# Altium footprint library lib.PcbLib: 40 footprints (part 1 of 3)
Each footprint in its own frame and in the unit in brackets; x right, y up, seen from the top. Pads: shape width x height; smd on the part's side, far side on the other; paste and mask are expansions set on the pad; w line width, h text height; cw(c..) or ccw(c..) is an arc to the next point about the centre after c.
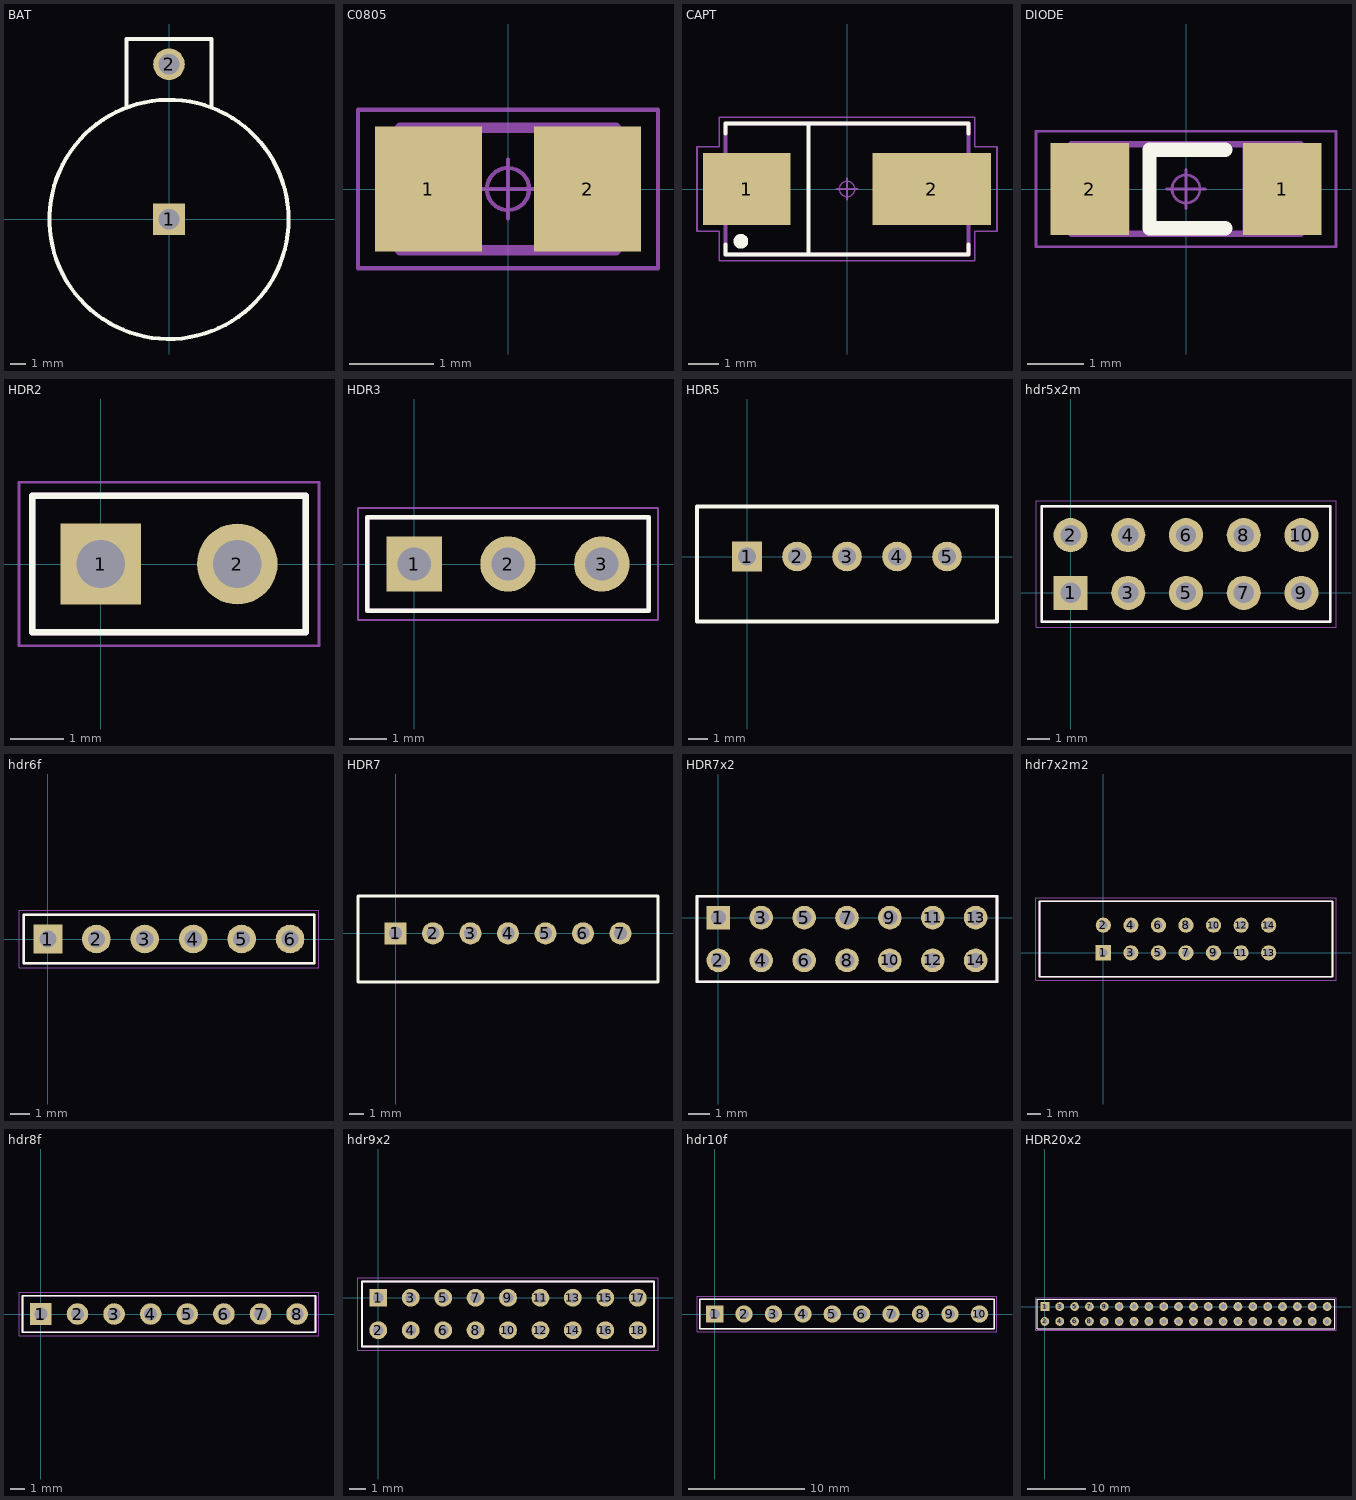
[diagram p0: the footprints below, top view; thin cyan lines are the x and y axes]

## BAT [mm] "DIPS, 9.80 mm lead span, 0.00 mm pitch; 2 pin, 15.10 mm L X 14.00 mm W X 7.90 mm H body"
height 7.9
pads (2):
  rect 2x2 hole 1.3: 1(0,0)
  round 2 hole 1.3: 2(0,9.8)
Top Overlay:
  circle w0.254: c0,0 r7.558
  lines w0.254: -2.7,7.15 -2.7,7.95 -2.7,11.4 2.7,11.4 2.7,7.1
Mechanical 12:
  lines w0.025: -0.6,-0.6 0.6,-0.6 0.6,0.6 -0.6,0.6 -0.6,-0.6 ; -0.6,9.2 0.6,9.2 0.6,10.4 -0.6,10.4 -0.6,9.2
3D body "bat-holder.stp": height 7.07, standoff -3.98, extent -7.53,-7.531 7.53,11.519

## C0805 [mm] "Capacitor, Chip; 2.35 mm L X 1.35 mm W X 1.00 mm H body"
height 1
pads (2):
  rect 1.27x1.48 smd: 1(-0.945,0) 2(0.945,0)
Mechanical 11:
  lines w0.12: -1.28,-0.73 1.28,-0.73 1.28,0.73 -1.28,0.73 -1.28,-0.73
Mechanical 12:
  lines w0.025: -1.175,-0.675 1.175,-0.675 ; -1.175,-0.675 -1.175,0.675 ; -1.175,-0.675 -1.175,0.675 ; -1.175,-0.675 -0.425,-0.675 -0.425,0.675 -1.175,0.675 ; -1.175,0.675 1.175,0.675 ; 1.175,-0.675 1.175,0.675 ; 1.175,-0.675 0.425,-0.675 0.425,0.675 1.175,0.675 ; 1.175,-0.675 1.175,0.675
Mechanical 15:
  circle w0.05: c0,0 r0.25
  lines w0.05: -0.35,0 0.35,0 ; 0,-0.35 0,0.35 ; -1.78,-0.94 1.78,-0.94 1.78,0.94 -1.78,0.94 -1.78,-0.94
3D body "User Library-SMD CAPACITOR.step": height 0.58, standoff -0.02, extent -1,-0.625 1,0.625

## CAPT [mm] "Capacitor, Polarized, Molded Body; 7.85 mm L X 4.20 mm W X 2.65 mm H body"
height 2.65
pads (2):
  rect 2.84x2.35 smd: 1(-3.255,0)
  rect 3.84x2.35 smd: 2(2.755,0)
Top Overlay:
  circle w0.254: c-3.45,-1.7 r0.112
  lines w0.12: -3.95,-1.8 -3.95,-2.13 3.95,-2.13 3.95,-1.8 ; -3.95,1.8 -3.95,2.13 3.95,2.13 3.95,1.8 ; -1.25,-2.13 -1.25,2.1
Mechanical 11:
  lines w0.12: -3.95,-2.13 3.95,-2.13 3.95,2.13 -3.95,2.13 -3.95,-2.13
Mechanical 12:
  lines w0.025: -4.125,-1.125 -4.125,1.125 -2.025,1.125 -2.025,-1.125 -4.125,-1.125 ; -3.925,-2.1 3.925,-2.1 3.925,2.1 -3.925,2.1 -3.925,-2.1 ; 1.025,-1.125 4.125,-1.125 4.125,1.125 1.025,1.125 1.025,-1.125
Mechanical 15:
  circle w0.05: c0,0 r0.25
  lines w0.05: -0.35,0 0.35,0 ; 0,-0.35 0,0.35 ; -4.875,-1.375 -4.15,-1.375 -4.15,-2.33 4.15,-2.33 4.15,-1.375 4.875,-1.375 4.875,1.375 4.15,1.375 4.15,2.33 -4.15,2.33 -4.15,1.375 -4.875,1.375 -4.875,-1.375
3D body "CAPT.stp": height 2, standoff 0, extent -3.81,-2.3 3.79,2.3

## DIODE [mm] "Diode, Chip; 4.05 mm L X 1.55 mm W X 1.50 mm H body"
height 1.5
pads (2):
  rect 1.4x1.65 smd: 1(1.72,0) 2(-1.72,0)
Top Overlay:
  lines w0.254: 0.7,-0.7 -0.65,-0.7 -0.65,0.7 0.7,0.7
Mechanical 11:
  lines w0.12: -2.05,-0.8 2.05,-0.8 2.05,0.8 -2.05,0.8 -2.05,-0.8
Mechanical 12:
  lines w0.025: -2.025,-0.775 2.025,-0.775 ; -2.025,-0.775 -2.025,0.775 ; -2.025,-0.775 -2.025,0.775 ; -2.025,-0.775 -1.02,-0.775 -1.02,0.775 -2.025,0.775 ; -2.025,0.775 2.025,0.775 ; 2.025,-0.775 2.025,0.775 ; 2.025,-0.775 1.02,-0.775 1.02,0.775 2.025,0.775 ; 2.025,-0.775 2.025,0.775
Mechanical 15:
  circle w0.05: c0,0 r0.25
  lines w0.05: -0.35,0 0.35,0 ; 0,-0.35 0,0.35 ; -2.68,-1.03 2.68,-1.03 2.68,1.03 -2.68,1.03 -2.68,-1.03
3D body "User Library-MiniMelf-2.step": height 1.6, standoff 0, extent -1.88,-0.8 1.82,0.8

## HDR2 [mm] "Header, Vertical, 2.54 mm pitch; 0.65 mm lead width, 2 pins, 1 row, 2 pins per row, 5.08 mm L X 2.54 mm W X 11.00 mm H body"
height 11
pads (2):
  rect 1.5x1.5 hole 0.9 paste-1.5: 1(0,0)
  round 1.5 hole 0.9 paste-1.5: 2(2.54,0)
Top Overlay:
  lines w0.12: -1.27,-1.27 3.81,-1.27 3.81,1.27 -1.27,1.27 -1.27,-1.27
Mechanical 11:
  lines w0.12: -1.27,-1.27 3.81,-1.27 3.81,1.27 -1.27,1.27 -1.27,-1.27
Mechanical 12:
  lines w0.025: -1.27,-1.27 3.81,-1.27 3.81,1.27 -1.27,1.27 -1.27,-1.27 ; -0.325,-0.325 0.325,-0.325 0.325,0.325 -0.325,0.325 -0.325,-0.325 ; 2.215,-0.325 2.865,-0.325 2.865,0.325 2.215,0.325 2.215,-0.325
Mechanical 15:
  circle w0.05: c0,0 r0.25
  lines w0.05: -0.35,0 0.35,0 ; 0,-0.35 0,0.35 ; -1.52,-1.52 4.06,-1.52 4.06,1.52 -1.52,1.52 -1.52,-1.52
3D body "pin_2.stp": height 8.27, standoff -3.29, extent -1.219,-1.27 3.759,1.27

## HDR3 [mm] "Header, Vertical, 2.54 mm pitch; 0.65 mm lead width, 3 pins, 1 row, 3 pins per row, 7.62 mm L X 2.54 mm W X 11.00 mm H body"
height 11
pads (3):
  rect 1.5x1.5 hole 0.9 paste-1.5: 1(0,0)
  round 1.5 hole 0.9 paste-1.5: 2(2.54,0) 3(5.08,0)
Top Overlay:
  lines w0.12: -1.27,-1.27 6.35,-1.27 6.35,1.27 -1.27,1.27 -1.27,-1.27
Mechanical 11:
  lines w0.12: -1.27,-1.27 6.35,-1.27 6.35,1.27 -1.27,1.27 -1.27,-1.27
Mechanical 12:
  lines w0.025: -1.27,-1.27 6.35,-1.27 6.35,1.27 -1.27,1.27 -1.27,-1.27 ; -0.325,-0.325 0.325,-0.325 0.325,0.325 -0.325,0.325 -0.325,-0.325 ; 2.215,-0.325 2.865,-0.325 2.865,0.325 2.215,0.325 2.215,-0.325 ; 4.755,-0.325 5.405,-0.325 5.405,0.325 4.755,0.325 4.755,-0.325
Mechanical 15:
  circle w0.05: c0,0 r0.25
  lines w0.05: -0.35,0 0.35,0 ; 0,-0.35 0,0.35 ; -1.52,-1.52 6.6,-1.52 6.6,1.52 -1.52,1.52 -1.52,-1.52
3D body "HDR3.STEP": height 11, standoff -2.3, extent -1.27,-1.27 6.35,1.27

## HDR5 [mm]
pads (5):
  rect 1.5x1.5 hole 0.9: 1(0,0)
  round 1.5 hole 0.9: 2(2.54,0) 3(5.08,0) 4(7.62,0) 5(10.16,0)
Top Overlay:
  lines w0.2: -2.54,-3.302 12.7,-3.302 12.7,2.54 -2.54,2.54 -2.54,-3.302
3D body "hdr5_silver.stp": height 7.01, standoff -2.13, extent -2.379,-3.434 12.521,2.366

## hdr5x2m [mm] "Header, Vertical, 2.54 mm pitch; 0.65 mm lead width, 10 pins, 2 rows, 5 pins per row, 12.70 mm L X 5.08 mm W X 8.60 mm H body"
height 8.6
pads (10):
  rect 1.5x1.5 hole 0.9 paste-1.5: 1(0,0)
  round 1.5 hole 0.9 paste-1.5: 2(0,2.54) 3(2.54,0) 4(2.54,2.54) 5(5.08,0) 6(5.08,2.54) 7(7.62,0) 8(7.62,2.54) 9(10.16,0) 10(10.16,2.54)
Top Overlay:
  lines w0.12: -1.27,-1.27 11.43,-1.27 11.43,3.81 -1.27,3.81 -1.27,-1.27
Mechanical 11:
  lines w0.12: -1.27,-1.27 11.43,-1.27 11.43,3.81 -1.27,3.81 -1.27,-1.27
Mechanical 12:
  lines w0.025: -1.27,-1.27 11.43,-1.27 11.43,3.81 -1.27,3.81 -1.27,-1.27 ; -0.325,-0.325 0.325,-0.325 0.325,0.325 -0.325,0.325 -0.325,-0.325 ; -0.325,2.215 0.325,2.215 0.325,2.865 -0.325,2.865 -0.325,2.215 ; 2.215,-0.325 2.865,-0.325 2.865,0.325 2.215,0.325 2.215,-0.325 ; 2.215,2.215 2.865,2.215 2.865,2.865 2.215,2.865 2.215,2.215 ; 4.755,-0.325 5.405,-0.325 5.405,0.325 4.755,0.325 4.755,-0.325 ; 4.755,2.215 5.405,2.215 5.405,2.865 4.755,2.865 4.755,2.215 ; 7.295,-0.325 7.945,-0.325 7.945,0.325 7.295,0.325 7.295,-0.325 ; 7.295,2.215 7.945,2.215 7.945,2.865 7.295,2.865 7.295,2.215 ; 9.835,-0.325 10.485,-0.325 10.485,0.325 9.835,0.325 9.835,-0.325 ; 9.835,2.215 10.485,2.215 10.485,2.865 9.835,2.865 9.835,2.215
Mechanical 15:
  circle w0.05: c0,0 r0.25
  lines w0.05: -0.35,0 0.35,0 ; 0,-0.35 0,0.35 ; -1.52,-1.52 11.68,-1.52 11.68,4.06 -1.52,4.06 -1.52,-1.52
Mechanical 16:
  text ".Designator" at 0,0 h1.2
3D body "hdr5x2m.STEP": height 8.6, standoff -2.3, extent -1.27,-1.27 11.43,3.81

## hdr6f [mm] "Header, Vertical Receptacle, 2.54 mm pitch; 0.65 mm lead width, 6 pins, 1 row, 6 pins per row, 15.24 mm L X 2.54 mm W X 13.30 mm H body"
height 13.3
pads (6):
  rect 1.5x1.5 hole 0.9 paste-1.5: 1(0,0)
  round 1.5 hole 0.9 paste-1.5: 2(2.54,0) 3(5.08,0) 4(7.62,0) 5(10.16,0) 6(12.7,0)
Top Overlay:
  lines w0.12: -1.27,-1.27 -1.27,1.27 13.97,1.27 13.97,-1.27 -1.27,-1.27
Mechanical 11:
  lines w0.12: -1.27,-1.27 -1.27,1.27 13.97,1.27 13.97,-1.27 -1.27,-1.27
Mechanical 12:
  lines w0.025: -1.27,-1.27 -1.27,1.27 13.97,1.27 13.97,-1.27 -1.27,-1.27 ; -0.325,-0.325 -0.325,0.325 0.325,0.325 0.325,-0.325 -0.325,-0.325 ; 2.215,-0.325 2.215,0.325 2.865,0.325 2.865,-0.325 2.215,-0.325 ; 4.755,-0.325 4.755,0.325 5.405,0.325 5.405,-0.325 4.755,-0.325 ; 7.295,-0.325 7.295,0.325 7.945,0.325 7.945,-0.325 7.295,-0.325 ; 9.835,-0.325 9.835,0.325 10.485,0.325 10.485,-0.325 9.835,-0.325 ; 12.375,-0.325 12.375,0.325 13.025,0.325 13.025,-0.325 12.375,-0.325
Mechanical 15:
  circle w0.05: c0,0 r0.25
  lines w0.05: -0.35,0 0.35,0 ; 0,-0.35 0,0.35 ; -1.52,-1.52 -1.52,1.52 14.22,1.52 14.22,-1.52 -1.52,-1.52
Mechanical 16:
  text ".Designator" at 0,0 h1.2
3D body "hdr6f.STEP": height 13.3, standoff -2, extent -1.27,-1.27 13.97,1.27

## HDR7 [mm]
pads (7):
  rect 1.5x1.5 hole 0.9: 1(0,0)
  round 1.5 hole 0.9: 2(2.54,0) 3(5.08,0) 4(7.62,0) 5(10.16,0) 6(12.7,0) 7(15.24,0)
Top Overlay:
  lines w0.2: -2.54,-3.302 17.78,-3.302 17.78,2.54 -2.54,2.54 -2.54,-3.302
3D body "hdr7_silver.stp": height 7.02, standoff -2.16, extent -2.372,-3.373 17.608,2.427

## HDR7x2 [mm] "Header, Vertical Receptacle, 2.00 mm pitch; 0.50 mm lead width, 14 pins, 2 rows, 7 pins per row, 14.00 mm L X 4.00 mm W X 4.31 mm H body"
height 4.31
pads (14):
  rect 1.1x1.1 hole 0.7: 1(0,0)
  round 1.1 hole 0.7: 2(0,-2) 3(2,0) 4(2,-2) 5(4,0) 6(4,-2) 7(6,0) 8(6,-2) 9(8,0) 10(8,-2) 11(10,0) 12(10,-2) 13(12,0) 14(12,-2)
Top Overlay:
  lines w0.12: -1,-3 -1,1 13,1 13,-3 -1,-3
Mechanical 11:
  lines w0.12: -1,-3 -1,1 13,1 13,-3 -1,-3
Mechanical 12:
  lines w0.025: -1,-3 -1,1 13,1 13,-3 -1,-3 ; -0.25,-2.25 -0.25,-1.75 0.25,-1.75 0.25,-2.25 -0.25,-2.25 ; -0.25,-0.25 -0.25,0.25 0.25,0.25 0.25,-0.25 -0.25,-0.25 ; 1.75,-2.25 1.75,-1.75 2.25,-1.75 2.25,-2.25 1.75,-2.25 ; 1.75,-0.25 1.75,0.25 2.25,0.25 2.25,-0.25 1.75,-0.25 ; 3.75,-2.25 3.75,-1.75 4.25,-1.75 4.25,-2.25 3.75,-2.25 ; 3.75,-0.25 3.75,0.25 4.25,0.25 4.25,-0.25 3.75,-0.25 ; 5.75,-2.25 5.75,-1.75 6.25,-1.75 6.25,-2.25 5.75,-2.25 ; 5.75,-0.25 5.75,0.25 6.25,0.25 6.25,-0.25 5.75,-0.25 ; 7.75,-2.25 7.75,-1.75 8.25,-1.75 8.25,-2.25 7.75,-2.25 ; 7.75,-0.25 7.75,0.25 8.25,0.25 8.25,-0.25 7.75,-0.25 ; 9.75,-2.25 9.75,-1.75 10.25,-1.75 10.25,-2.25 9.75,-2.25 ; 9.75,-0.25 9.75,0.25 10.25,0.25 10.25,-0.25 9.75,-0.25 ; 11.75,-2.25 11.75,-1.75 12.25,-1.75 12.25,-2.25 11.75,-2.25 ; 11.75,-0.25 11.75,0.25 12.25,0.25 12.25,-0.25 11.75,-0.25
Mechanical 15:
  circle w0.05: c0,0 r0.25
  lines w0.05: -0.35,0 0.35,0 ; 0,-0.35 0,0.35
3D body "HDR7x2.STEP": height 4.31, standoff -2, extent -1,-3 13,1

## hdr7x2m2 [mm] "Header, Vertical Shrouded, 2.00 mm pitch; 0.47 mm lead width, 14 pins, 2 rows, 7 pins per row, 21.25 mm L X 5.50 mm W X 5.60 mm H body"
height 5.6
pads (14):
  rect 1.1x1.1 hole 0.6 paste-1.1: 1(0,0)
  round 1.1 hole 0.6 paste-1.1: 2(0,2) 3(2,0) 4(2,2) 5(4,0) 6(4,2) 7(6,0) 8(6,2) 9(8,0) 10(8,2) 11(10,0) 12(10,2) 13(12,0) 14(12,2)
Top Overlay:
  lines w0.12: -4.63,-1.75 -4.63,3.75 16.63,3.75 16.63,-1.75 -4.63,-1.75
Mechanical 11:
  circle w0.12: c0,0 r0.24
  circle w0.12: c0,2 r0.24
  circle w0.12: c2,0 r0.24
  circle w0.12: c2,2 r0.24
  circle w0.12: c4,0 r0.24
  circle w0.12: c4,2 r0.24
  circle w0.12: c6,0 r0.24
  circle w0.12: c6,2 r0.24
  circle w0.12: c8,0 r0.24
  circle w0.12: c8,2 r0.24
  circle w0.12: c10,0 r0.24
  circle w0.12: c10,2 r0.24
  circle w0.12: c12,0 r0.24
  circle w0.12: c12,2 r0.24
  lines w0.12: -4.63,-1.75 -4.63,3.75 16.63,3.75 16.63,-1.75 -4.63,-1.75
Mechanical 12:
  lines w0.025: -4.625,-1.75 -4.625,3.75 16.625,3.75 16.625,-1.75 -4.625,-1.75 ; -0.235,-0.235 -0.235,0.235 0.235,0.235 0.235,-0.235 -0.235,-0.235 ; -0.235,1.765 -0.235,2.235 0.235,2.235 0.235,1.765 -0.235,1.765 ; 1.765,-0.235 1.765,0.235 2.235,0.235 2.235,-0.235 1.765,-0.235 ; 1.765,1.765 1.765,2.235 2.235,2.235 2.235,1.765 1.765,1.765 ; 3.765,-0.235 3.765,0.235 4.235,0.235 4.235,-0.235 3.765,-0.235 ; 3.765,1.765 3.765,2.235 4.235,2.235 4.235,1.765 3.765,1.765 ; 5.765,-0.235 5.765,0.235 6.235,0.235 6.235,-0.235 5.765,-0.235 ; 5.765,1.765 5.765,2.235 6.235,2.235 6.235,1.765 5.765,1.765 ; 7.765,-0.235 7.765,0.235 8.235,0.235 8.235,-0.235 7.765,-0.235 ; 7.765,1.765 7.765,2.235 8.235,2.235 8.235,1.765 7.765,1.765 ; 9.765,-0.235 9.765,0.235 10.235,0.235 10.235,-0.235 9.765,-0.235 ; 9.765,1.765 9.765,2.235 10.235,2.235 10.235,1.765 9.765,1.765 ; 11.765,-0.235 11.765,0.235 12.235,0.235 12.235,-0.235 11.765,-0.235 ; 11.765,1.765 11.765,2.235 12.235,2.235 12.235,1.765 11.765,1.765
Mechanical 14:
  circle w0.12: c0,0 r0.24
  circle w0.12: c0,2 r0.24
  circle w0.12: c2,0 r0.24
  circle w0.12: c2,2 r0.24
  circle w0.12: c4,0 r0.24
  circle w0.12: c4,2 r0.24
  circle w0.12: c6,0 r0.24
  circle w0.12: c6,2 r0.24
  circle w0.12: c8,0 r0.24
  circle w0.12: c8,2 r0.24
  circle w0.12: c10,0 r0.24
  circle w0.12: c10,2 r0.24
  circle w0.12: c12,0 r0.24
  circle w0.12: c12,2 r0.24
Mechanical 15:
  circle w0.05: c0,0 r0.25
  lines w0.05: -0.35,0 0.35,0 ; 0,-0.35 0,0.35 ; -4.88,-2 -4.88,4 16.88,4 16.88,-2 -4.88,-2
Mechanical 16:
  text ".Designator" at 0,0 h1.2
3D body "hdr7x2m2.stp": height 5.6, standoff -2.3, extent -4.625,-1.75 16.625,3.75

## hdr8f [mm] "Header, Vertical Receptacle, 2.54 mm pitch; 0.65 mm lead width, 8 pins, 1 row, 8 pins per row, 20.32 mm L X 2.54 mm W X 13.30 mm H body"
height 13.3
pads (8):
  rect 1.5x1.5 hole 0.9 paste-1.5: 1(0,0)
  round 1.5 hole 0.9 paste-1.5: 2(2.54,0) 3(5.08,0) 4(7.62,0) 5(10.16,0) 6(12.7,0) 7(15.24,0) 8(17.78,0)
Top Overlay:
  lines w0.12: -1.27,-1.27 19.05,-1.27 19.05,1.27 -1.27,1.27 -1.27,-1.27
Mechanical 11:
  lines w0.12: -1.27,-1.27 19.05,-1.27 19.05,1.27 -1.27,1.27 -1.27,-1.27
Mechanical 12:
  lines w0.025: -1.27,-1.27 19.05,-1.27 19.05,1.27 -1.27,1.27 -1.27,-1.27 ; -0.325,-0.325 0.325,-0.325 0.325,0.325 -0.325,0.325 -0.325,-0.325 ; 2.215,-0.325 2.865,-0.325 2.865,0.325 2.215,0.325 2.215,-0.325 ; 4.755,-0.325 5.405,-0.325 5.405,0.325 4.755,0.325 4.755,-0.325 ; 7.295,-0.325 7.945,-0.325 7.945,0.325 7.295,0.325 7.295,-0.325 ; 9.835,-0.325 10.485,-0.325 10.485,0.325 9.835,0.325 9.835,-0.325 ; 12.375,-0.325 13.025,-0.325 13.025,0.325 12.375,0.325 12.375,-0.325 ; 14.915,-0.325 15.565,-0.325 15.565,0.325 14.915,0.325 14.915,-0.325 ; 17.455,-0.325 18.105,-0.325 18.105,0.325 17.455,0.325 17.455,-0.325
Mechanical 15:
  circle w0.05: c0,0 r0.25
  lines w0.05: -0.35,0 0.35,0 ; 0,-0.35 0,0.35 ; -1.52,-1.52 19.3,-1.52 19.3,1.52 -1.52,1.52 -1.52,-1.52
Mechanical 16:
  text ".Designator" at 0,0 h1.2
3D body "hdr8f.STEP": height 13.3, standoff -2, extent -1.27,-1.27 19.05,1.27

## hdr9x2 [mm] "Header, Vertical Receptacle, 2.00 mm pitch; 0.50 mm lead width, 18 pins, 2 rows, 9 pins per row, 18.00 mm L X 4.00 mm W X 4.35 mm H body"
height 4.35
pads (18):
  rect 1.1x1.1 hole 0.65 paste-1.1: 1(0,0)
  round 1.1 hole 0.65 paste-1.1: 2(0,-2) 3(2,0) 4(2,-2) 5(4,0) 6(4,-2) 7(6,0) 8(6,-2) 9(8,0) 10(8,-2) 11(10,0) 12(10,-2) 13(12,0) 14(12,-2) 15(14,0) 16(14,-2) 17(16,0) 18(16,-2)
Top Overlay:
  lines w0.12: -1,-3 17,-3 17,1 -1,1 -1,-3
Mechanical 11:
  lines w0.12: -1,-3 17,-3 17,1 -1,1 -1,-3
Mechanical 12:
  lines w0.025: -1,-3 17,-3 17,1 -1,1 -1,-3 ; -0.25,-2.25 0.25,-2.25 0.25,-1.75 -0.25,-1.75 -0.25,-2.25 ; -0.25,-0.25 0.25,-0.25 0.25,0.25 -0.25,0.25 -0.25,-0.25 ; 1.75,-2.25 2.25,-2.25 2.25,-1.75 1.75,-1.75 1.75,-2.25 ; 1.75,-0.25 2.25,-0.25 2.25,0.25 1.75,0.25 1.75,-0.25 ; 3.75,-2.25 4.25,-2.25 4.25,-1.75 3.75,-1.75 3.75,-2.25 ; 3.75,-0.25 4.25,-0.25 4.25,0.25 3.75,0.25 3.75,-0.25 ; 5.75,-2.25 6.25,-2.25 6.25,-1.75 5.75,-1.75 5.75,-2.25 ; 5.75,-0.25 6.25,-0.25 6.25,0.25 5.75,0.25 5.75,-0.25 ; 7.75,-2.25 8.25,-2.25 8.25,-1.75 7.75,-1.75 7.75,-2.25 ; 7.75,-0.25 8.25,-0.25 8.25,0.25 7.75,0.25 7.75,-0.25 ; 9.75,-2.25 10.25,-2.25 10.25,-1.75 9.75,-1.75 9.75,-2.25 ; 9.75,-0.25 10.25,-0.25 10.25,0.25 9.75,0.25 9.75,-0.25 ; 11.75,-2.25 12.25,-2.25 12.25,-1.75 11.75,-1.75 11.75,-2.25 ; 11.75,-0.25 12.25,-0.25 12.25,0.25 11.75,0.25 11.75,-0.25 ; 13.75,-2.25 14.25,-2.25 14.25,-1.75 13.75,-1.75 13.75,-2.25 ; 13.75,-0.25 14.25,-0.25 14.25,0.25 13.75,0.25 13.75,-0.25 ; 15.75,-2.25 16.25,-2.25 16.25,-1.75 15.75,-1.75 15.75,-2.25 ; 15.75,-0.25 16.25,-0.25 16.25,0.25 15.75,0.25 15.75,-0.25
Mechanical 15:
  circle w0.05: c0,0 r0.25
  lines w0.05: -0.35,0 0.35,0 ; 0,-0.35 0,0.35 ; -1.25,-3.25 17.25,-3.25 17.25,1.25 -1.25,1.25 -1.25,-3.25
3D body "hdr9x2.STEP": height 4.35, standoff -2, extent -1,-3 17,1

## hdr10f [mm] "Header, Vertical Receptacle, 2.54 mm pitch; 0.65 mm lead width, 10 pins, 1 row, 10 pins per row, 25.40 mm L X 2.54 mm W X 13.30 mm H body"
height 13.3
pads (10):
  rect 1.5x1.5 hole 0.9 paste-1.5: 1(0,0)
  round 1.5 hole 0.9 paste-1.5: 2(2.54,0) 3(5.08,0) 4(7.62,0) 5(10.16,0) 6(12.7,0) 7(15.24,0) 8(17.78,0) 9(20.32,0) 10(22.86,0)
Top Overlay:
  lines w0.12: -1.27,-1.27 -1.27,1.27 24.13,1.27 24.13,-1.27 -1.27,-1.27
Mechanical 11:
  lines w0.12: -1.27,-1.27 -1.27,1.27 24.13,1.27 24.13,-1.27 -1.27,-1.27
Mechanical 12:
  lines w0.025: -1.27,-1.27 -1.27,1.27 24.13,1.27 24.13,-1.27 -1.27,-1.27 ; -0.325,-0.325 -0.325,0.325 0.325,0.325 0.325,-0.325 -0.325,-0.325 ; 2.215,-0.325 2.215,0.325 2.865,0.325 2.865,-0.325 2.215,-0.325 ; 4.755,-0.325 4.755,0.325 5.405,0.325 5.405,-0.325 4.755,-0.325 ; 7.295,-0.325 7.295,0.325 7.945,0.325 7.945,-0.325 7.295,-0.325 ; 9.835,-0.325 9.835,0.325 10.485,0.325 10.485,-0.325 9.835,-0.325 ; 12.375,-0.325 12.375,0.325 13.025,0.325 13.025,-0.325 12.375,-0.325 ; 14.915,-0.325 14.915,0.325 15.565,0.325 15.565,-0.325 14.915,-0.325 ; 17.455,-0.325 17.455,0.325 18.105,0.325 18.105,-0.325 17.455,-0.325 ; 19.995,-0.325 19.995,0.325 20.645,0.325 20.645,-0.325 19.995,-0.325 ; 22.535,-0.325 22.535,0.325 23.185,0.325 23.185,-0.325 22.535,-0.325
Mechanical 15:
  circle w0.05: c0,0 r0.25
  lines w0.05: -0.35,0 0.35,0 ; 0,-0.35 0,0.35 ; -1.52,-1.52 -1.52,1.52 24.38,1.52 24.38,-1.52 -1.52,-1.52
3D body "hdr10f.STEP": height 13.3, standoff -2, extent -1.27,-1.27 24.13,1.27

## HDR20x2 [mm] "Header, Vertical Receptacle, 2.54 mm pitch; 0.65 mm lead width, 40 pins, 2 rows, 20 pins per row, 50.80 mm L X 5.08 mm W X 11.00 mm H body"
height 11
pads (40):
  rect 1.5x1.5 hole 0.9 paste-1.5: 1(0,0)
  round 1.5 hole 0.9 paste-1.5: 2(0,-2.54) 3(2.54,0) 4(2.54,-2.54) 5(5.08,0) 6(5.08,-2.54) 7(7.62,0) 8(7.62,-2.54) 9(10.16,0) 10(10.16,-2.54) 11(12.7,0) 12(12.7,-2.54) 13(15.24,0) 14(15.24,-2.54) 15(17.78,0) 16(17.78,-2.54) 17(20.32,0) 18(20.32,-2.54) 19(22.86,0) 20(22.86,-2.54) 21(25.4,0) 22(25.4,-2.54) 23(27.94,0) 24(27.94,-2.54) 25(30.48,0) 26(30.48,-2.54) 27(33.02,0) 28(33.02,-2.54) 29(35.56,0) 30(35.56,-2.54) 31(38.1,0) 32(38.1,-2.54) 33(40.64,0) 34(40.64,-2.54) 35(43.18,0) 36(43.18,-2.54) 37(45.72,0) 38(45.72,-2.54) 39(48.26,0) 40(48.26,-2.54)
Top Overlay:
  lines w0.12: -1.27,-3.81 49.53,-3.81 49.53,1.27 -1.27,1.27 -1.27,-3.81
Mechanical 11:
  lines w0.12: -1.27,-3.81 49.53,-3.81 49.53,1.27 -1.27,1.27 -1.27,-3.81
Mechanical 12:
  drawing of 164 lines, arcs and shapes, not listed
Mechanical 15:
  circle w0.05: c0,0 r0.25
  lines w0.05: -0.35,0 0.35,0 ; 0,-0.35 0,0.35 ; -1.52,-4.06 49.78,-4.06 49.78,1.52 -1.52,1.52 -1.52,-4.06
3D body "HDR20x2.STEP": height 11, standoff -2, extent -1.27,-3.81 49.53,1.27